# Altium footprint library SL_Diodes.PcbLib: 3 footprints
Each footprint in its own frame and in the unit in brackets; x right, y up, seen from the top. Pads: shape width x height; smd on the part's side, far side on the other; paste and mask are expansions set on the pad; w line width, h text height; cw(c..) or ccw(c..) is an arc to the next point about the centre after c.
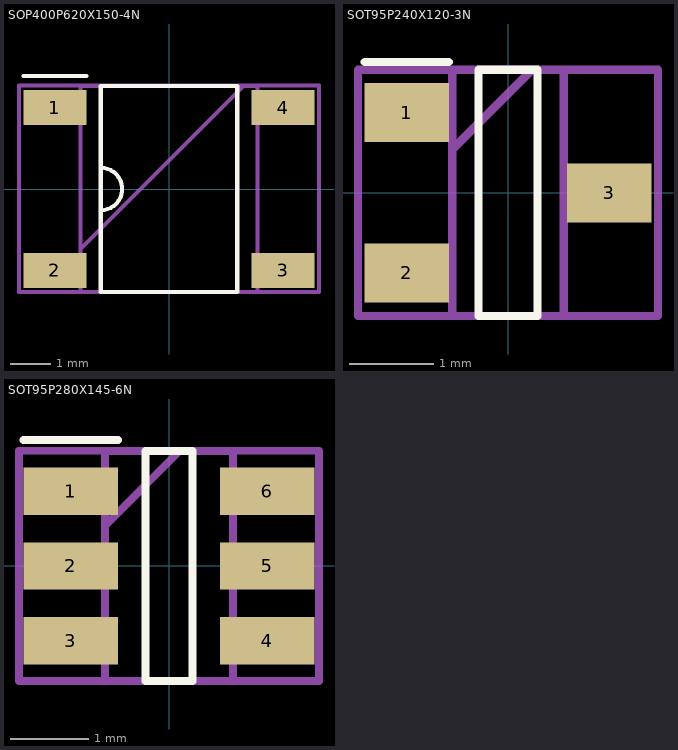
[diagram p0: the footprints below, top view; thin cyan lines are the x and y axes]

## SOP400P620X150-4N [mm]
pads (4):
  rect 1.55x0.85 smd: 1(-2.8,2) 2(-2.8,-2) 3(2.8,-2) 4(2.8,2)
Top Overlay:
  lines w0.1: -3.575,2.775 -2.025,2.775 ; -1.675,-0.524 ccw(c-1.675,0) -1.675,0.524 ; -1.675,-2.525 1.675,-2.525 1.675,2.525 -1.675,2.525 -1.675,-2.525
Mechanical 13:
  lines w0.1: -2.175,-1.475 1.825,2.525 ; -2.175,-2.525 2.175,-2.525 2.175,2.525 -2.175,2.525 -2.175,-2.525
Mechanical 15:
  lines w0.1: -3.683,-2.525 3.683,-2.525 3.683,2.54 -3.683,2.54 -3.683,-2.525
3D body "ABS210.stp": height 1.5, standoff 0, extent -3.1,-2.525 3.1,2.525

## SOT95P240X120-3N [mm]
pads (3):
  rect 1x0.7 smd: 1(-1.2,0.95) 2(-1.2,-0.95) 3(1.2,0)
Top Overlay:
  lines w0.1: -1.7,1.55 -0.7,1.55 ; -0.35,-1.46 0.35,-1.46 0.35,1.46 -0.35,1.46 -0.35,-1.46
Mechanical 13:
  lines w0.1: -0.662,0.51 0.288,1.46 ; -0.662,-1.46 0.662,-1.46 0.662,1.46 -0.662,1.46 -0.662,-1.46
Mechanical 15:
  lines w0.1: -1.778,-1.46 1.778,-1.46 1.778,1.46 -1.778,1.46 -1.778,-1.46
3D body "BAT54S.stp": height 1.2, standoff 0, extent -1.2,-1.46 1.2,1.46

## SOT95P280X145-6N [mm]
pads (6):
  rect 1.2x0.6 smd mask+0.051: 1(-1.25,0.95) 2(-1.25,0) 3(-1.25,-0.95) 4(1.25,-0.95) 5(1.25,0) 6(1.25,0.95)
Top Overlay:
  lines w0.1: -1.85,1.6 -0.65,1.6 ; -0.3,-1.462 0.3,-1.462 0.3,1.462 -0.3,1.462 -0.3,-1.462
Mechanical 13:
  lines w0.1: -0.812,0.512 0.138,1.462 ; -0.812,-1.462 0.812,-1.462 0.812,1.462 -0.812,1.462 -0.812,-1.462
Mechanical 15:
  lines w0.1: -1.905,-1.462 1.905,-1.462 1.905,1.462 -1.905,1.462 -1.905,-1.462
3D body "USBLC6-2SC6.stp": height 1.45, standoff 0, extent -1.4,-1.462 1.4,1.462